# EAGLE library part LTC3459ES6TRMPBF (library IPNS_Lib)
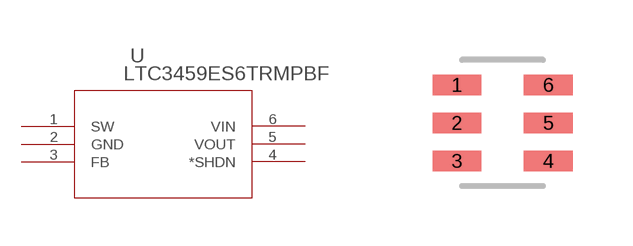
[diagram p2: symbol with the pads of TSOT-23_S6; footprint TSOT-23_S6]

Designator prefix U

## LTC3459ES6TRMPBF (COPYRIGHT: Copyright (C) 2016 Accelerated Designs. All rights reserved; MANUFACTURER_PART_NUMBER: ltc3459es6#trmpbf; VENDOR: Linear Technology)  [TSOT-23_S6]
1  SW  pas
2  GND  pwr
3  FB  in
4  *SHDN  in
5  VOUT  out
6  VIN  in

## Footprint TSOT-23_S6 (pad centres in mm)
smd 1.219 x 0.508: 1 -1.143,0.95; 2 -1.143,0; 3 -1.143,-0.95; 4 1.143,-0.95; 5 1.143,0; 6 1.143,0.95